# Altium schematic symbol library TLV70430DBVR.SchLib: 2 symbols
Pins are listed as number, name and electrical type; pins without a type are passive.

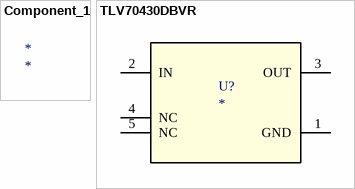
[diagram p0: symbols Component_1 to TLV70430DBVR]

## Component_1
designator *

## TLV70430DBVR
designator U?
Imported; PartNumber: TLV70430DBVR; Manufacturer: Texas Instruments; RefDes: RefDes; TYPE: TYPE; Value: Value
footprint DBV0005A_N
pins: 1 GND (power), 2 IN (power), 3 OUT (power), 4 NC, 5 NC